# EAGLE library part SBH21-NBPN-D05-ST-BK (library SBH21-NBPN-D05-ST-BK)
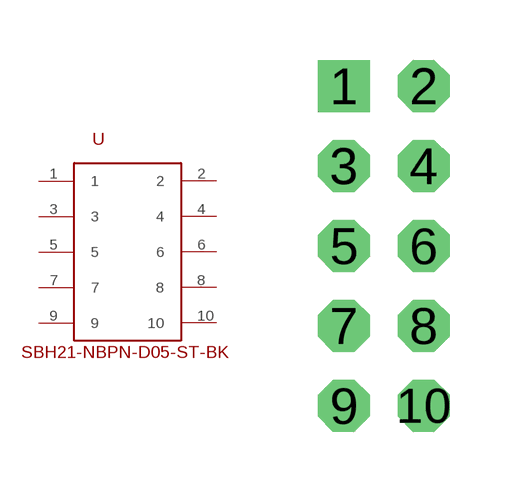
[diagram p0: symbol with the pads of SBH21-NBPN-D05-ST-BK; footprint SBH21-NBPN-D05-ST-BK]

Designator prefix -

## SBH21-NBPN-D05-ST-BK  [SBH21-NBPN-D05-ST-BK]
1  1
2  2
3  3
4  4
5  5
6  6
7  7
8  8
9  9
10  10

## Footprint SBH21-NBPN-D05-ST-BK (pad centres in mm)
drill 0.8 square: 1 -1,4
drill 0.8 octagon: 2 1,4; 3 -1,2; 4 1,2; 5 -1,0; 6 1,0; 7 -1,-2; 8 1,-2; 9 -1,-4; 10 1,-4